# Altium footprint library SnapEDApcb.PcbLib: 1 footprints
Each footprint in its own frame and in the unit in brackets; x right, y up, seen from the top. Pads: shape width x height; smd on the part's side, far side on the other; paste and mask are expansions set on the pad; w line width, h text height; cw(c..) or ccw(c..) is an arc to the next point about the centre after c.
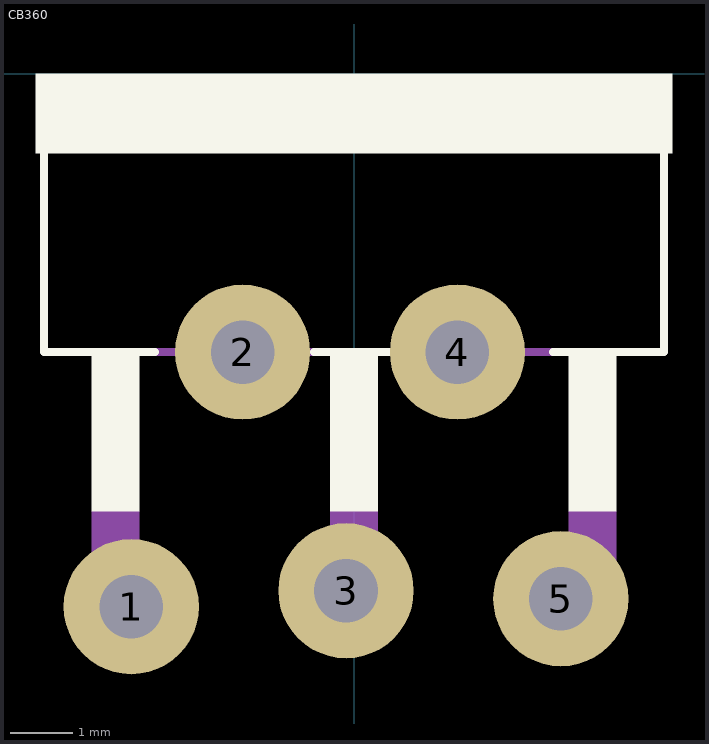
[diagram p0: the footprint, top view; thin cyan lines are the x and y axes]

## CB360 [mil]
pads (5):
  round 85 hole 40: 1(-140,-335) 2(-70,-175) 3(-5,-325) 4(65,-175) 5(130,-330)
Top Overlay:
  region: 165,-275 135,-275 135,-175 165,-175
  region: 15,-275 -15,-275 -15,-175 15,-175
  region: -135,-275 -165,-275 -165,-175 -135,-175
  region: 200,-50 -200,-50 -200,0 200,0
  lines w5: -195,-50 -195,-175 -125,-175 ; -25,-175 25,-175 ; 125,-175 195,-175 195,-50
Mechanical 13:
  region: 165,-330 135,-330 135,-275 165,-275
  region: 15,-330 -15,-330 -15,-275 15,-275
  region: -135,-330 -165,-330 -165,-275 -135,-275
  lines w5: -125,-175 -25,-175 ; 25,-175 125,-175
3D body "TDA2030V.STEP": height 832.68, standoff -179.13, extent -210,-345 199.45,-10.35